# EAGLE library part RT424A* (library relay)
Power PCB Relay polarized bistable version SCHRACK 2 pole 8 A Source: http://www.schrack.com/.. 5843.pdf
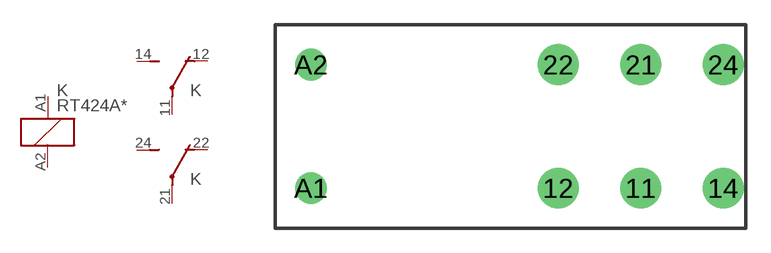
[diagram p134: symbol with the pads of RT2C/O; footprint RT2C/O]

Designator prefix K; gates 1=K 2=U 3=U

## RT424A05 (MPN: RT424A05; OC_FARNELL: unknown; OC_NEWARK: 48M7975), RT424A06 (MPN: RT424A06; OC_FARNELL: unknown; OC_NEWARK: 48M7976), RT424A12 (MPN: RT424A12; OC_FARNELL: unknown; OC_NEWARK: 48M7977), RT424A24 (MPN: RT424A24; OC_FARNELL: unknown; OC_NEWARK: 48M7978)  [RT2C/O]
11  2:P  pas
12  2:O  pas
14  2:S  pas
21  3:P  pas
22  3:O  pas
24  3:S  pas
A1  1:1  pas
A2  1:2  pas

## Footprint RT2C/O (pad centres in mm)
Power PCB Relay DC and AC-coil SCHRACK 2 pole 8 A Source: http://www.schrack.com/.. 5842.pdf
drill 1.3 pad 2.5 round: 11 7.56,-3.68; 12 2.52,-3.68; 14 12.6,-3.68; 21 7.56,3.88; 22 2.52,3.88; 24 12.6,3.88
drill 1.3 round: A1 -12.6,-3.68; A2 -12.6,3.88